# Altium footprint library 691 244 500 0xx.PcbLib: 8 footprints
Each footprint in its own frame and in the unit in brackets; x right, y up, seen from the top. Pads: shape width x height; smd on the part's side, far side on the other; paste and mask are expansions set on the pad; w line width, h text height; cw(c..) or ccw(c..) is an arc to the next point about the centre after c.
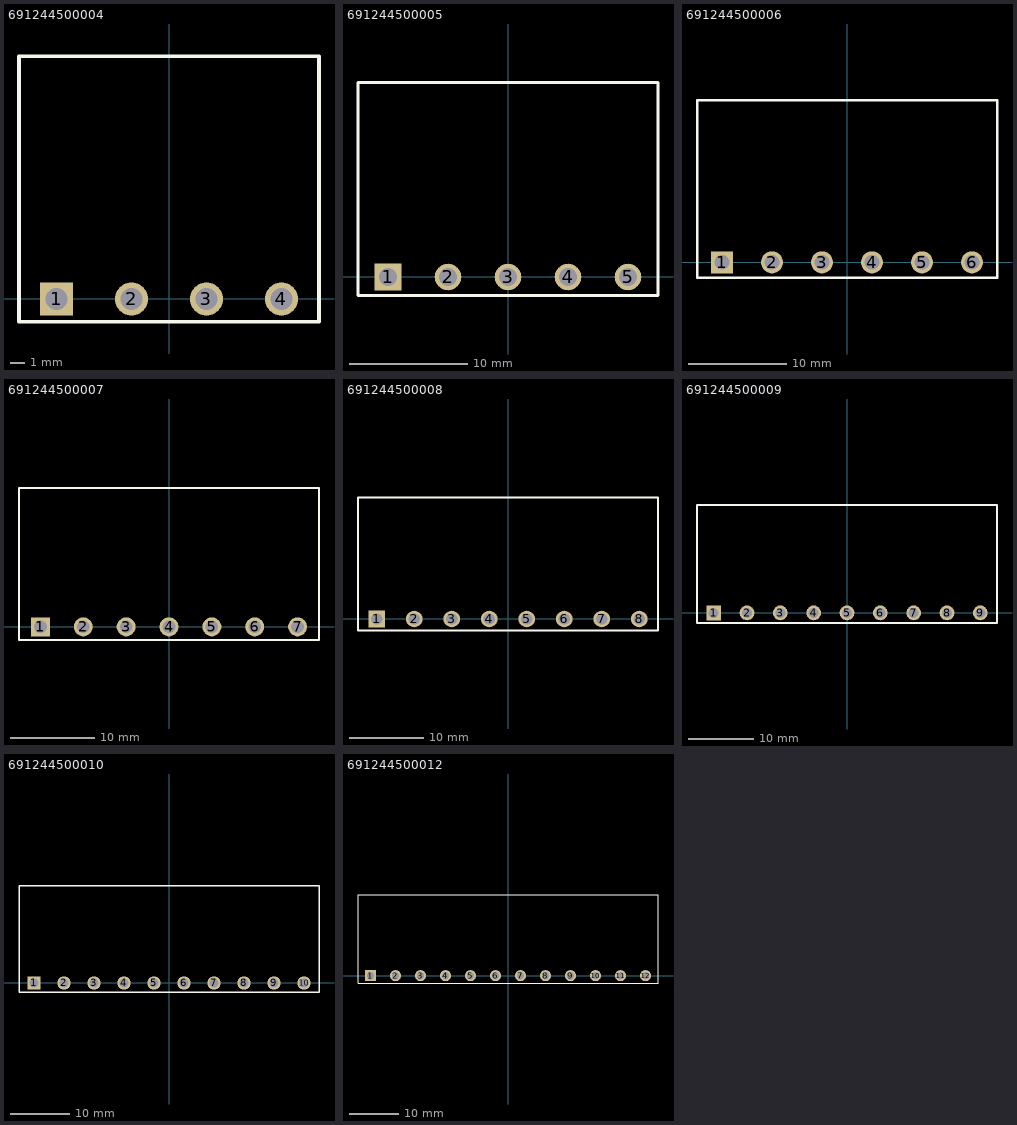
[diagram p0: the footprints below, top view; thin cyan lines are the x and y axes]

## 691244500004 [mm] "Serie 2445 - 5.08 mm _ 4 pins"
height 11.2
pads (4):
  rect 2.25x2.25 hole 1.5: 1(-7.62,0)
  round 2.25 hole 1.5: 2(-2.54,0) 3(2.54,0) 4(7.62,0)
Top Overlay:
  lines w0.254: -10.16,-1.55 10.16,-1.55 10.16,16.45 -10.16,16.45 -10.16,-1.55
3D body: height 11.25, standoff -3.95, extent -10.06,-1.6 10.26,16.4

## 691244500005 [mm] "Serie 2445 - 5.08 mm _ 5 pins"
height 11.2
pads (5):
  rect 2.25x2.25 hole 1.5: 1(-10.16,0)
  round 2.25 hole 1.5: 2(-5.08,0) 3(0,0) 4(5.08,0) 5(10.16,0)
Top Overlay:
  lines w0.254: -12.7,-1.55 12.7,-1.55 12.7,16.45 -12.7,16.45 -12.7,-1.55
3D body: height 11.25, standoff -3.95, extent -12.7,-1.5 12.7,16.5

## 691244500006 [mm] "Serie 2445 - 5.08 mm _ 6 pins"
height 11.2
pads (6):
  rect 2.25x2.25 hole 1.5: 1(-12.7,0)
  round 2.25 hole 1.5: 2(-7.62,0) 3(-2.54,0) 4(2.54,0) 5(7.62,0) 6(12.7,0)
Top Overlay:
  lines w0.254: -15.24,-1.55 15.24,-1.55 15.24,16.45 -15.24,16.45 -15.24,-1.55
3D body: height 11.25, standoff -3.95, extent -15.2,-1.6 15.28,16.4

## 691244500007 [mm] "Serie 2445 - 5.08 mm _ 7 pins"
height 11.2
pads (7):
  rect 2.25x2.25 hole 1.5: 1(-15.24,0)
  round 2.25 hole 1.5: 2(-10.16,0) 3(-5.08,0) 4(0,0) 5(5.08,0) 6(10.16,0) 7(15.24,0)
Top Overlay:
  lines w0.254: -17.78,-1.55 -17.78,16.45 17.78,16.45 17.78,-1.55 -17.78,-1.55
3D body: height 11.25, standoff -3.95, extent -17.76,-1.6 17.8,16.4

## 691244500008 [mm] "Serie 2445 - 5.08 mm _ 8 pins"
height 11.2
pads (8):
  rect 2.25x2.25 hole 1.5: 1(-17.78,0)
  round 2.25 hole 1.5: 2(-12.7,0) 3(-7.62,0) 4(-2.54,0) 5(2.54,0) 6(7.62,0) 7(12.7,0) 8(17.78,0)
Top Overlay:
  lines w0.254: -20.32,-1.55 -20.32,16.45 20.32,16.45 20.32,-1.55 -20.32,-1.55
3D body: height 11.25, standoff -3.95, extent -20.3,-1.6 20.34,16.4

## 691244500009 [mm] "Serie 2445 - 5.08 mm _ 9 pins"
height 11.2
pads (9):
  rect 2.25x2.25 hole 1.5: 1(-20.32,0)
  round 2.25 hole 1.5: 2(-15.24,0) 3(-10.16,0) 4(-5.08,0) 5(0,0) 6(5.08,0) 7(10.16,0) 8(15.24,0) 9(20.32,0)
Top Overlay:
  lines w0.254: -22.86,-1.55 -22.86,16.45 22.86,16.45 22.86,-1.55 -22.86,-1.55
3D body: height 11.25, standoff -3.95, extent -22.8,-1.5 22.92,16.5

## 691244500010 [mm] "Serie 2445 - 5.08 mm _ 10 pins"
height 11.2
pads (10):
  rect 2.25x2.25 hole 1.5: 1(-22.86,0)
  round 2.25 hole 1.5: 2(-17.78,0) 3(-12.7,0) 4(-7.62,0) 5(-2.54,0) 6(2.54,0) 7(7.62,0) 8(12.7,0) 9(17.78,0) 10(22.86,0)
Top Overlay:
  lines w0.254: -25.4,-1.55 -25.4,16.45 25.4,16.45 25.4,-1.55 -25.4,-1.55
3D body: height 11.25, standoff -3.95, extent -25.4,-1.5 25.4,16.5

## 691244500012 [mm] "Serie 2445 - 5.08 mm _ 12 pins"
height 11.2
pads (12):
  rect 2.25x2.25 hole 1.5: 1(-27.94,0)
  round 2.25 hole 1.5: 2(-22.86,0) 3(-17.78,0) 4(-12.7,0) 5(-7.62,0) 6(-2.54,0) 7(2.54,0) 8(7.62,0) 9(12.7,0) 10(17.78,0) 11(22.86,0) 12(27.94,0)
Top Overlay:
  lines w0.254: -30.48,-1.55 -30.48,16.45 30.48,16.45 30.48,-1.55 -30.48,-1.55